# Altium schematic symbol library Res1-2.SCHLIB: 1 symbol
Pins are listed as number, name and electrical type; pins without a type are passive.

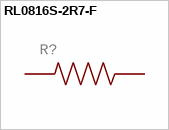
[diagram p0: symbol RL0816S-2R7-F]

## RL0816S-2R7-F
designator R?
GateName_1: G$1; SymbolName_1: RL0816S-2R7-F; Description: 2.7 Ohms ±1% 0.2W, 1/5W Chip Resistor 0603 (1608 Metric) Current Sense Thin Film; MF: Susumu; LibraryName: Res1-2.7; DeviceSetName: RL0816S-2R7-F; Package: RESC1608X55N; MP: RL0816S-2R7-F; Package: 1608 Susumu
footprint RESC1608X55N
pins: 1, 2